# Altium footprint library IC_SMD_BGA.PCBLIB: 109 footprints (part 1 of 14)
Each footprint in its own frame and in the unit in brackets; x right, y up, seen from the top. Pads: shape width x height; smd on the part's side, far side on the other; paste and mask are expansions set on the pad; w line width, h text height; cw(c..) or ccw(c..) is an arc to the next point about the centre after c.
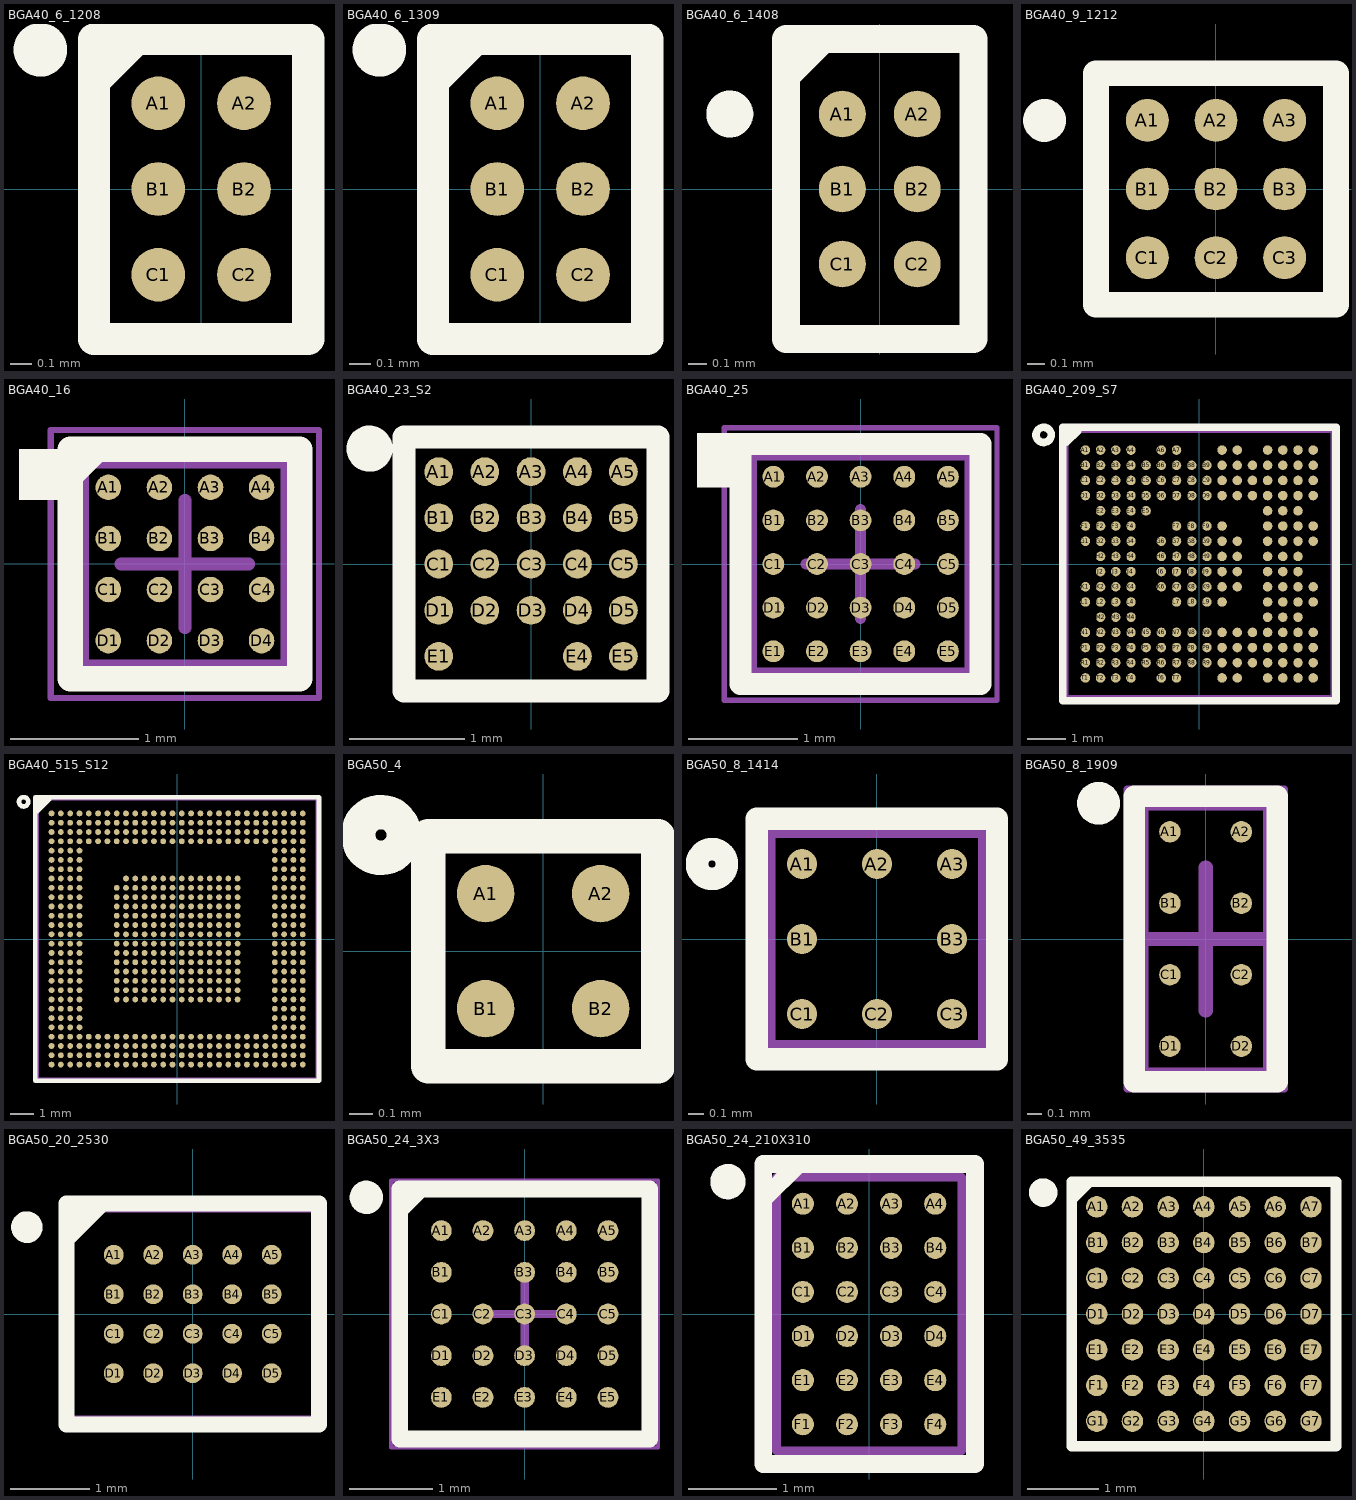
[diagram p0: the footprints below, top view; thin cyan lines are the x and y axes]

## BGA40_6_1208 [mm] "BGA WLCSP-6, 0.40mm pitch, 1.2x0.8x0.55mm"
height 0.62
pads (6):
  round 0.25 smd mask+0.05: A1(-0.2,0.4) A2(0.2,0.4) B1(-0.2,0) B2(0.2,0) C1(-0.2,-0.4) C2(0.2,-0.4)
TopOverlay:
  circle w0.15: c-0.75,0.65 r0.05
  region: -0.5,0.7 -0.2,0.7 -0.5,0.4
  lines w0.15: -0.5,-0.7 -0.5,0.7 0.5,0.7 0.5,-0.7 -0.5,-0.7
3D body "BMA530.STEP": height 0.59, standoff 0, extent -0.4,-0.6 0.4,0.6

## BGA40_6_1309 [mm] "BGA DSBGA, 6-Leads, YFF, Body 0.88x1.28mmx0.62mm, Pitch 0.40mm"
height 0.62
pads (6):
  round 0.25 smd mask+0.05: A1(-0.2,0.4) A2(0.2,0.4) B1(-0.2,0) B2(0.2,0) C1(-0.2,-0.4) C2(0.2,-0.4)
TopOverlay:
  circle w0.15: c-0.75,0.65 r0.05
  region: -0.5,0.7 -0.2,0.7 -0.5,0.4
  lines w0.15: -0.5,-0.7 -0.5,0.7 0.5,0.7 0.5,-0.7 -0.5,-0.7
3D body "BGA40_6_1309-.step": height 0.63, standoff 0, extent -0.43,-0.63 0.43,0.63
3D body "BMA530.STEP": height 0.59, standoff 0, extent -1.7,-0.6 -0.9,0.6

## BGA40_6_1408 [mm] "BGA WLCSP6, 6-Leads, Body 0.80x1.40mmx0.37mm, Pitch 0.40mm"
height 0.37
pads (6):
  round 0.25 smd mask+0.05: A1(-0.2,0.4) A2(0.2,0.4) B1(-0.2,0) B2(0.2,0) C1(-0.2,-0.4) C2(0.2,-0.4)
TopOverlay:
  circle w0.15: c-0.8,0.4 r0.05
  region: -0.5,0.8 -0.2,0.8 -0.5,0.5
  lines w0.15: -0.5,-0.8 -0.5,0.8 0.5,0.8 0.5,-0.8 -0.5,-0.8
3D body "BGA40_6_1408.step": height 0.37, standoff 0, extent -0.4,-0.7 0.4,0.7

## BGA40_9_1212 [mm] "WLCSP9, 9-Leads, Body 1.26x1.215x0.50mm, Pitch 0.40mm"
height 0.5
pads (9):
  round 0.25 smd mask+0.05: A1(-0.4,0.4) A2(0,0.4) A3(0.4,0.4) B1(-0.4,0) B2(0,0) B3(0.4,0) C1(-0.4,-0.4) C2(0,-0.4) C3(0.4,-0.4)
TopOverlay:
  circle w0.15: c-1,0.4 r0.05
  lines w0.15: -0.7,-0.675 -0.7,0.675 0.7,0.675 0.7,-0.675 -0.7,-0.675
3D body "BGA40_1212.step": height 0.5, standoff 0, extent -0.625,-0.6 0.625,0.6

## BGA40_16 [mm] "BGA, CB-16-10, 0.4mm pitch, 1.6x1.6x0.55mm"
height 0.55
pads (16):
  round 0.2 smd mask+0.05: A1(-0.6,0.6) A2(-0.2,0.6) A3(0.2,0.6) A4(0.6,0.6) B1(-0.6,0.2) B2(-0.2,0.2) B3(0.2,0.2) B4(0.6,0.2) C1(-0.6,-0.2) C2(-0.2,-0.2) C3(0.2,-0.2) C4(0.6,-0.2) D1(-0.6,-0.6) D2(-0.2,-0.6) D3(0.2,-0.6) D4(0.6,-0.6)
TopOverlay:
  rectangle: -1.3,0.5 -0.9,0.9
  region: -0.9,0.9 -0.55,0.9 -0.9,0.55
  lines w0.2: -0.9,-0.9 -0.9,0.9 0.9,0.9 0.9,-0.9 -0.9,-0.9
Mechanical13:
  lines w0.1: -0.8,-0.8 0.8,-0.8 0.8,0.8 -0.8,0.8 -0.8,-0.8
Mechanical15:
  lines w0.05: -1.05,-1.05 1.05,-1.05 1.05,1.05 -1.05,1.05 -1.05,-1.05
  lines w0.1: -0.5,0 0.5,0 ; 0,-0.5 0,0.5
3D body "BGA40_16.step": height 0.55, standoff 0, extent -0.8,-0.8 0.8,0.8

## BGA40_23_S2 [mm] "BGA, 23-balls (5x5), 2x2mm, Pitch 0.4mm"
height 0.5
pads (23):
  round 0.25 smd mask+0.05: A1(-0.8,0.8) A2(-0.401,0.8) A3(0,0.8) A4(0.401,0.8) A5(0.8,0.8) B1(-0.8,0.401) B2(-0.401,0.401) B3(0,0.401) B4(0.401,0.401) B5(0.8,0.401) C1(-0.8,0) C2(-0.401,0) C3(0,0) C4(0.401,0) C5(0.8,0) D1(-0.8,-0.401) D2(-0.401,-0.401) D3(0,-0.401) D4(0.401,-0.401) D5(0.8,-0.401) E1(-0.8,-0.8) E4(0.401,-0.8) E5(0.8,-0.8)
TopOverlay:
  circle w0.2: c-1.4,1 r0.1
  lines w0.2: -1.1,-1.1 -1.1,1.1 1.1,1.1 1.1,-1.1 -1.1,-1.1
3D body: height 0.6, standoff 0.1, extent -1,-1 1,1

## BGA40_25 [mm] "BGA, DSBGA, YFQ0025, 0.4mm pitch, 2x2x0.6mm"
height 0.6
pads (25):
  round 0.2 smd mask+0.05: A1(-0.8,0.8) A2(-0.4,0.8) A3(0,0.8) A4(0.4,0.8) A5(0.8,0.8) B1(-0.8,0.4) B2(-0.4,0.4) B3(0,0.4) B4(0.4,0.4) B5(0.8,0.4) C1(-0.8,0) C2(-0.4,0) C3(0,0) C4(0.4,0) C5(0.8,0) D1(-0.8,-0.4) D2(-0.4,-0.4) D3(0,-0.4) D4(0.4,-0.4) D5(0.8,-0.4) E1(-0.8,-0.8) E2(-0.4,-0.8) E3(0,-0.8) E4(0.4,-0.8) E5(0.8,-0.8)
TopOverlay:
  rectangle: -1.5,0.7 -1.1,1.2
  lines w0.2: -1.1,-1.1 -1.1,1.1 1.1,1.1 1.1,-1.1 -1.1,-1.1
Mechanical13:
  lines w0.1: -1,-1 1,-1 1,1 -1,1 -1,-1
Mechanical15:
  lines w0.05: -1.25,-1.25 1.25,-1.25 1.25,1.25 -1.25,1.25 -1.25,-1.25
  lines w0.1: -0.5,0 0.5,0 ; 0,-0.5 0,0.5
3D body "BGA40_25.step": height 0.6, standoff 0, extent -1,-1 1,1

## BGA40_209_S7 [mm] "ZXN BGA, 209-balls (16x16), 7x7mm, Pitch 0.4mm"
height 1
pads (209):
  round 0.25 smd mask+0.05: A1(-3,3) A2(-2.6,3) A3(-2.2,3) A4(-1.8,3) A6(-1,3) A7(-0.6,3) A10(0.6,3) A11(1,3) A13(1.8,3) A14(2.2,3) A15(2.6,3) A16(3,3) B1(-3,2.6) B2(-2.6,2.6) B3(-2.2,2.6) B4(-1.8,2.6) B5(-1.4,2.6) B6(-1,2.6) B7(-0.6,2.6) B8(-0.2,2.6) B9(0.2,2.6) B10(0.6,2.6) B11(1,2.6) B12(1.4,2.6) B13(1.8,2.6) B14(2.2,2.6) B15(2.6,2.6) B16(3,2.6) C1(-3,2.2) C2(-2.6,2.2) C3(-2.2,2.2) C4(-1.8,2.2) C5(-1.4,2.2) C6(-1,2.2) C7(-0.6,2.2) C8(-0.2,2.2) C9(0.2,2.2) C10(0.6,2.2) C11(1,2.2) C12(1.4,2.2) C13(1.8,2.2) C14(2.2,2.2) C15(2.6,2.2) C16(3,2.2) D1(-3,1.8) D2(-2.6,1.8) D3(-2.2,1.8) D4(-1.8,1.8) D5(-1.4,1.8) D6(-1,1.8) D7(-0.6,1.8) D8(-0.2,1.8) D9(0.2,1.8) D10(0.6,1.8) D11(1,1.8) D12(1.4,1.8) D13(1.8,1.8) D14(2.2,1.8) D15(2.6,1.8) D16(3,1.8) E2(-2.6,1.4) E3(-2.2,1.4) E4(-1.8,1.4) E5(-1.4,1.4) E13(1.8,1.4) E14(2.2,1.4) E15(2.6,1.4) F1(-3,1) F2(-2.6,1) F3(-2.2,1) F4(-1.8,1) F7(-0.6,1) F8(-0.2,1) F9(0.2,1) F10(0.6,1) F13(1.8,1) F14(2.2,1) F15(2.6,1) F16(3,1) G1(-3,0.6) G2(-2.6,0.6) G3(-2.2,0.6) G4(-1.8,0.6) G6(-1,0.6) G7(-0.6,0.6) G8(-0.2,0.6) G9(0.2,0.6) G10(0.6,0.6) G11(1,0.6) G13(1.8,0.6) G14(2.2,0.6) G15(2.6,0.6) G16(3,0.6) H2(-2.6,0.2) H3(-2.2,0.2) H4(-1.8,0.2) H6(-1,0.2) H7(-0.6,0.2) H8(-0.2,0.2) H9(0.2,0.2) H10(0.6,0.2) H11(1,0.2) H13(1.8,0.2) H14(2.2,0.2) H15(2.6,0.2) J2(-2.6,-0.2) J3(-2.2,-0.2) J4(-1.8,-0.2) J6(-1,-0.2) J7(-0.6,-0.2) J8(-0.2,-0.2) J9(0.2,-0.2) J10(0.6,-0.2) J11(1,-0.2) J13(1.8,-0.2) J14(2.2,-0.2) J15(2.6,-0.2) K1(-3,-0.6) K2(-2.6,-0.6) K3(-2.2,-0.6) K4(-1.8,-0.6) K6(-1,-0.6) K7(-0.6,-0.6) K8(-0.2,-0.6) K9(0.2,-0.6) K10(0.6,-0.6) K11(1,-0.6) K13(1.8,-0.6) K14(2.2,-0.6) K15(2.6,-0.6) K16(3,-0.6) L1(-3,-1) L2(-2.6,-1) L3(-2.2,-1) L4(-1.8,-1) L7(-0.6,-1) L8(-0.2,-1) L9(0.2,-1) L10(0.6,-1) L13(1.8,-1) L14(2.2,-1) L15(2.6,-1) L16(3,-1) M2(-2.6,-1.4) M3(-2.2,-1.4) M4(-1.8,-1.4) M13(1.8,-1.4) M14(2.2,-1.4) M15(2.6,-1.4) N1(-3,-1.8) N2(-2.6,-1.8) N3(-2.2,-1.8) N4(-1.8,-1.8) N5(-1.4,-1.8) N6(-1,-1.8) N7(-0.6,-1.8) N8(-0.2,-1.8) N9(0.2,-1.8) N10(0.6,-1.8) N11(1,-1.8) N12(1.4,-1.8) N13(1.8,-1.8) N14(2.2,-1.8) N15(2.6,-1.8) N16(3,-1.8) P1(-3,-2.2) P2(-2.6,-2.2) P3(-2.2,-2.2) P4(-1.8,-2.2) P5(-1.4,-2.2) P6(-1,-2.2) P7(-0.6,-2.2) P8(-0.2,-2.2) P9(0.2,-2.2) P10(0.6,-2.2) P11(1,-2.2) P12(1.4,-2.2) P13(1.8,-2.2) P14(2.2,-2.2) P15(2.6,-2.2) P16(3,-2.2) R1(-3,-2.6) R2(-2.6,-2.6) R3(-2.2,-2.6) R4(-1.8,-2.6) R5(-1.4,-2.6) R6(-1,-2.6) R7(-0.6,-2.6) R8(-0.2,-2.6) R9(0.2,-2.6) R10(0.6,-2.6) R11(1,-2.6) R12(1.4,-2.6) R13(1.8,-2.6) R14(2.2,-2.6) R15(2.6,-2.6) R16(3,-2.6) T1(-3,-3) T2(-2.6,-3) T3(-2.2,-3) T4(-1.8,-3) T6(-1,-3) T7(-0.6,-3) T10(0.6,-3) T11(1,-3) T13(1.8,-3) T14(2.2,-3) T15(2.6,-3) T16(3,-3)
TopOverlay:
  circle w0.2: c-4.1,3.4 r0.2
  region: -3.207,3.5 -3.5,3.207 -3.5,3.5
  lines w0.2: -3.5,3.207 -3.207,3.5 ; -3.6,-3.6 3.6,-3.6 3.6,3.6 -3.6,3.6 -3.6,-3.6
Mechanical13:
  lines w0.1: -3.5,-3.5 3.5,-3.5 3.5,3.5 -3.5,3.5 -3.5,-3.5
3D body: height 1, standoff 0.15, extent -3.5,-3.5 3.5,3.5

## BGA40_515_S12 [mm] "BGA, 515-Leads, Body 12.00x12.00mm, Pitch 0.40mm"
height 0.7
pads (579):
  round 0.25 smd mask+0.075: A1(-5.4,5.4) A2(-5,5.4) A3(-4.6,5.4) A4(-4.2,5.4) A5(-3.8,5.4) A6(-3.4,5.4) A7(-3,5.4) A8(-2.6,5.4) A9(-2.2,5.4) A10(-1.8,5.4) A11(-1.4,5.4) A12(-1,5.4) A13(-0.6,5.4) A14(-0.2,5.4) A15(0.2,5.4) A16(0.6,5.4) A17(1,5.4) A18(1.4,5.4) A19(1.8,5.4) A20(2.2,5.4) A21(2.6,5.4) A22(3,5.4) A23(3.4,5.4) A24(3.8,5.4) A25(4.2,5.4) A26(4.6,5.4) A27(5,5.4) A28(5.4,5.4) AA1(-5.4,-2.6) AA2(-5,-2.6) AA3(-4.6,-2.6) AA4(-4.2,-2.6) AA8(-2.6,-2.6) AA9(-2.2,-2.6) AA10(-1.8,-2.6) AA11(-1.4,-2.6) AA12(-1,-2.6) AA13(-0.6,-2.6) AA14(-0.2,-2.6) AA15(0.2,-2.6) AA16(0.6,-2.6) AA17(1,-2.6) AA18(1.4,-2.6) AA19(1.8,-2.6) AA20(2.2,-2.6) AA21(2.6,-2.6) AA25(4.2,-2.6) AA26(4.6,-2.6) AA27(5,-2.6) AA28(5.4,-2.6) AB1(-5.4,-3) AB2(-5,-3) AB3(-4.6,-3) AB4(-4.2,-3) AB25(4.2,-3) AB26(4.6,-3) AB27(5,-3) AB28(5.4,-3) AC1(-5.4,-3.4) AC2(-5,-3.4) AC3(-4.6,-3.4) AC4(-4.2,-3.4) AC25(4.2,-3.4) AC26(4.6,-3.4) AC27(5,-3.4) AC28(5.4,-3.4) AD1(-5.4,-3.8) AD2(-5,-3.8) AD3(-4.6,-3.8) AD4(-4.2,-3.8) AD25(4.2,-3.8) AD26(4.6,-3.8) AD27(5,-3.8) AD28(5.4,-3.8) AE1(-5.4,-4.2) AE2(-5,-4.2) AE3(-4.6,-4.2) AE4(-4.2,-4.2) AE5(-3.8,-4.2) AE6(-3.4,-4.2) AE7(-3,-4.2) AE8(-2.6,-4.2) AE9(-2.2,-4.2) AE10(-1.8,-4.2) AE11(-1.4,-4.2) AE12(-1,-4.2) AE13(-0.6,-4.2) AE14(-0.2,-4.2) AE15(0.2,-4.2) AE16(0.6,-4.2) AE17(1,-4.2) AE18(1.4,-4.2) AE19(1.8,-4.2) AE20(2.2,-4.2) AE21(2.6,-4.2) AE22(3,-4.2) AE23(3.4,-4.2) AE24(3.8,-4.2) AE25(4.2,-4.2) AE26(4.6,-4.2) AE27(5,-4.2) AE28(5.4,-4.2) AF1(-5.4,-4.6) AF2(-5,-4.6) AF3(-4.6,-4.6) AF4(-4.2,-4.6) AF5(-3.8,-4.6) AF6(-3.4,-4.6) AF7(-3,-4.6) AF8(-2.6,-4.6) AF9(-2.2,-4.6) AF10(-1.8,-4.6) AF11(-1.4,-4.6) AF12(-1,-4.6) AF13(-0.6,-4.6) AF14(-0.2,-4.6) AF15(0.2,-4.6) AF16(0.6,-4.6) AF17(1,-4.6) AF18(1.4,-4.6) AF19(1.8,-4.6) AF20(2.2,-4.6) AF21(2.6,-4.6) AF22(3,-4.6) AF23(3.4,-4.6) AF24(3.8,-4.6) AF25(4.2,-4.6) AF26(4.6,-4.6) AF27(5,-4.6) AF28(5.4,-4.6) AG1(-5.4,-5) AG2(-5,-5) AG3(-4.6,-5) AG4(-4.2,-5) AG5(-3.8,-5) AG6(-3.4,-5) AG7(-3,-5) AG8(-2.6,-5) AG9(-2.2,-5) AG10(-1.8,-5) AG11(-1.4,-5) AG12(-1,-5) AG13(-0.6,-5) AG14(-0.2,-5) AG15(0.2,-5) AG16(0.6,-5) AG17(1,-5) AG18(1.4,-5) AG19(1.8,-5) AG20(2.2,-5) AG21(2.6,-5) AG22(3,-5) AG23(3.4,-5) AG24(3.8,-5) AG25(4.2,-5) AG26(4.6,-5) AG27(5,-5) AG28(5.4,-5) AH1(-5.4,-5.4) AH2(-5,-5.4) AH3(-4.6,-5.4) AH4(-4.2,-5.4) AH5(-3.8,-5.4) AH6(-3.4,-5.4) AH7(-3,-5.4) AH8(-2.6,-5.4) AH9(-2.2,-5.4) AH10(-1.8,-5.4) AH11(-1.4,-5.4) AH12(-1,-5.4) AH13(-0.6,-5.4) AH14(-0.2,-5.4) AH15(0.2,-5.4) AH16(0.6,-5.4) AH17(1,-5.4) AH18(1.4,-5.4) AH19(1.8,-5.4) AH20(2.2,-5.4) AH21(2.6,-5.4) AH22(3,-5.4) AH23(3.4,-5.4) AH24(3.8,-5.4) AH25(4.2,-5.4) AH26(4.6,-5.4) AH27(5,-5.4) AH28(5.4,-5.4) B1(-5.4,5) B2(-5,5) B3(-4.6,5) B4(-4.2,5) B5(-3.8,5) B6(-3.4,5) B7(-3,5) B8(-2.6,5) B9(-2.2,5) B10(-1.8,5) B11(-1.4,5) B12(-1,5) B13(-0.6,5) B14(-0.2,5) B15(0.2,5) B16(0.6,5) B17(1,5) B18(1.4,5) B19(1.8,5) B20(2.2,5) B21(2.6,5) B22(3,5) B23(3.4,5) B24(3.8,5) B25(4.2,5) B26(4.6,5) B27(5,5) B28(5.4,5) C1(-5.4,4.6) C2(-5,4.6) C3(-4.6,4.6) C4(-4.2,4.6) C5(-3.8,4.6) C6(-3.4,4.6) C7(-3,4.6) C8(-2.6,4.6) C9(-2.2,4.6) C10(-1.8,4.6) C11(-1.4,4.6) C12(-1,4.6) C13(-0.6,4.6) C14(-0.2,4.6) C15(0.2,4.6) C16(0.6,4.6) C17(1,4.6) C18(1.4,4.6) C19(1.8,4.6) C20(2.2,4.6) C21(2.6,4.6) C22(3,4.6) C23(3.4,4.6) C24(3.8,4.6) C25(4.2,4.6) C26(4.6,4.6) C27(5,4.6) C28(5.4,4.6) D1(-5.4,4.2) D2(-5,4.2) D3(-4.6,4.2) D4(-4.2,4.2) D5(-3.8,4.2) D6(-3.4,4.2) D7(-3,4.2) D8(-2.6,4.2) D9(-2.2,4.2) D10(-1.8,4.2) D11(-1.4,4.2) D12(-1,4.2) D13(-0.6,4.2) D14(-0.2,4.2) D15(0.2,4.2) D16(0.6,4.2) D17(1,4.2) D18(1.4,4.2) D19(1.8,4.2) D20(2.2,4.2) D21(2.6,4.2) D22(3,4.2) D23(3.4,4.2) D24(3.8,4.2) D25(4.2,4.2) D26(4.6,4.2) D27(5,4.2) D28(5.4,4.2) E1(-5.4,3.8) E2(-5,3.8) E3(-4.6,3.8) E4(-4.2,3.8) E25(4.2,3.8) E26(4.6,3.8) E27(5,3.8) E28(5.4,3.8) F1(-5.4,3.4) F2(-5,3.4) F3(-4.6,3.4) F4(-4.2,3.4) F25(4.2,3.4) F26(4.6,3.4) F27(5,3.4) F28(5.4,3.4) G1(-5.4,3) G2(-5,3) G3(-4.6,3) G4(-4.2,3) G25(4.2,3) G26(4.6,3) G27(5,3) G28(5.4,3) H1(-5.4,2.6) H2(-5,2.6) H3(-4.6,2.6) H4(-4.2,2.6) H9(-2.2,2.6) H10(-1.8,2.6) H11(-1.4,2.6) H12(-1,2.6) H13(-0.6,2.6) H14(-0.2,2.6) H15(0.2,2.6) H16(0.6,2.6) H17(1,2.6) H18(1.4,2.6) H19(1.8,2.6) H20(2.2,2.6) H21(2.6,2.6) H25(4.2,2.6) H26(4.6,2.6) H27(5,2.6) H28(5.4,2.6) J1(-5.4,2.2) J2(-5,2.2) J3(-4.6,2.2) J4(-4.2,2.2) J8(-2.6,2.2) J9(-2.2,2.2) J10(-1.8,2.2) J11(-1.4,2.2) J12(-1,2.2) J13(-0.6,2.2) J14(-0.2,2.2) J15(0.2,2.2) J16(0.6,2.2) J17(1,2.2) J18(1.4,2.2) J19(1.8,2.2) J20(2.2,2.2) J21(2.6,2.2) J25(4.2,2.2) J26(4.6,2.2) J27(5,2.2) J28(5.4,2.2) K1(-5.4,1.8) K2(-5,1.8) K3(-4.6,1.8) K4(-4.2,1.8) K8(-2.6,1.8) K9(-2.2,1.8) K10(-1.8,1.8) K11(-1.4,1.8) K12(-1,1.8) K13(-0.6,1.8) K14(-0.2,1.8) K15(0.2,1.8) K16(0.6,1.8) K17(1,1.8) K18(1.4,1.8) K19(1.8,1.8) K20(2.2,1.8) K21(2.6,1.8) K25(4.2,1.8) K26(4.6,1.8) K27(5,1.8) K28(5.4,1.8) L1(-5.4,1.4) L2(-5,1.4) L3(-4.6,1.4) L4(-4.2,1.4) L8(-2.6,1.4) L9(-2.2,1.4) L10(-1.8,1.4) L11(-1.4,1.4) L12(-1,1.4) L13(-0.6,1.4) L14(-0.2,1.4) L15(0.2,1.4) L16(0.6,1.4) L17(1,1.4) L18(1.4,1.4) L19(1.8,1.4) L20(2.2,1.4) L21(2.6,1.4) L25(4.2,1.4) L26(4.6,1.4) L27(5,1.4) L28(5.4,1.4) M1(-5.4,1) M2(-5,1) M3(-4.6,1) M4(-4.2,1) M8(-2.6,1) M9(-2.2,1) M10(-1.8,1) M11(-1.4,1) M12(-1,1) M13(-0.6,1) M14(-0.2,1) M15(0.2,1) M16(0.6,1) M17(1,1) M18(1.4,1) M19(1.8,1) M20(2.2,1) M21(2.6,1) M25(4.2,1) M26(4.6,1) M27(5,1) M28(5.4,1) N1(-5.4,0.6) N2(-5,0.6) N3(-4.6,0.6) N4(-4.2,0.6) N8(-2.6,0.6) N9(-2.2,0.6) N10(-1.8,0.6) N11(-1.4,0.6) N12(-1,0.6) N13(-0.6,0.6) N14(-0.2,0.6) N15(0.2,0.6) N16(0.6,0.6) N17(1,0.6) N18(1.4,0.6) N19(1.8,0.6) N20(2.2,0.6) N21(2.6,0.6) N25(4.2,0.6) N26(4.6,0.6) N27(5,0.6) N28(5.4,0.6) P1(-5.4,0.2) P2(-5,0.2) P3(-4.6,0.2) P4(-4.2,0.2) P8(-2.6,0.2) P9(-2.2,0.2) P10(-1.8,0.2) P11(-1.4,0.2) P12(-1,0.2) P13(-0.6,0.2) P14(-0.2,0.2) P15(0.2,0.2) P16(0.6,0.2) P17(1,0.2) P18(1.4,0.2) P19(1.8,0.2) P20(2.2,0.2) P21(2.6,0.2) P25(4.2,0.2) P26(4.6,0.2) P27(5,0.2) P28(5.4,0.2) R1(-5.4,-0.2) R2(-5,-0.2) R3(-4.6,-0.2) R4(-4.2,-0.2) R8(-2.6,-0.2) R9(-2.2,-0.2) R10(-1.8,-0.2) R11(-1.4,-0.2) R12(-1,-0.2) R13(-0.6,-0.2) R14(-0.2,-0.2) R15(0.2,-0.2) R16(0.6,-0.2) R17(1,-0.2) R18(1.4,-0.2) R19(1.8,-0.2) R20(2.2,-0.2) R21(2.6,-0.2) R25(4.2,-0.2) R26(4.6,-0.2) R27(5,-0.2) R28(5.4,-0.2) T1(-5.4,-0.6) T2(-5,-0.6) T3(-4.6,-0.6) T4(-4.2,-0.6) T8(-2.6,-0.6) T9(-2.2,-0.6) T10(-1.8,-0.6) T11(-1.4,-0.6) T12(-1,-0.6) T13(-0.6,-0.6) T14(-0.2,-0.6) T15(0.2,-0.6) T16(0.6,-0.6) T17(1,-0.6) T18(1.4,-0.6) T19(1.8,-0.6) T20(2.2,-0.6) T21(2.6,-0.6) T25(4.2,-0.6) T26(4.6,-0.6) T27(5,-0.6) T28(5.4,-0.6) U1(-5.4,-1) U2(-5,-1) U3(-4.6,-1) U4(-4.2,-1) U8(-2.6,-1) U9(-2.2,-1) U10(-1.8,-1) U11(-1.4,-1) U12(-1,-1) U13(-0.6,-1) U14(-0.2,-1) U15(0.2,-1) U16(0.6,-1) U17(1,-1) U18(1.4,-1) U19(1.8,-1) U20(2.2,-1) U21(2.6,-1) U25(4.2,-1) U26(4.6,-1) U27(5,-1) U28(5.4,-1) V1(-5.4,-1.4) V2(-5,-1.4) V3(-4.6,-1.4) V4(-4.2,-1.4) V8(-2.6,-1.4) V9(-2.2,-1.4) V10(-1.8,-1.4) V11(-1.4,-1.4) V12(-1,-1.4) V13(-0.6,-1.4) V14(-0.2,-1.4) V15(0.2,-1.4) V16(0.6,-1.4) V17(1,-1.4) V18(1.4,-1.4) V19(1.8,-1.4) V20(2.2,-1.4) V21(2.6,-1.4) V25(4.2,-1.4) V26(4.6,-1.4) V27(5,-1.4) V28(5.4,-1.4) W1(-5.4,-1.8) W2(-5,-1.8) W3(-4.6,-1.8) W4(-4.2,-1.8) W8(-2.6,-1.8) W9(-2.2,-1.8) W10(-1.8,-1.8) W11(-1.4,-1.8) W12(-1,-1.8) W13(-0.6,-1.8) W14(-0.2,-1.8) W15(0.2,-1.8) W16(0.6,-1.8) W17(1,-1.8) W18(1.4,-1.8) W19(1.8,-1.8) W20(2.2,-1.8) W21(2.6,-1.8) W25(4.2,-1.8) W26(4.6,-1.8) W27(5,-1.8) W28(5.4,-1.8) Y1(-5.4,-2.2) Y2(-5,-2.2) Y3(-4.6,-2.2) Y4(-4.2,-2.2) Y8(-2.6,-2.2) Y9(-2.2,-2.2) Y10(-1.8,-2.2) Y11(-1.4,-2.2) Y12(-1,-2.2) Y13(-0.6,-2.2) Y14(-0.2,-2.2) Y15(0.2,-2.2) Y16(0.6,-2.2) Y17(1,-2.2) Y18(1.4,-2.2) Y19(1.8,-2.2) Y20(2.2,-2.2) Y21(2.6,-2.2) Y25(4.2,-2.2) Y26(4.6,-2.2) Y27(5,-2.2) Y28(5.4,-2.2)
TopOverlay:
  circle w0.2: c-6.6,5.9 r0.2
  region: -5.507,6 -6,5.507 -6,6
  lines w0.2: -6,5.507 -5.507,6 ; -6.1,-6.1 6.1,-6.1 6.1,6.1 -6.1,6.1 -6.1,-6.1
Mechanical13:
  lines w0.1: -6,-6 6,-6 6,6 -6,6 -6,-6
3D body: height 0.7, standoff 0.15, extent -6,-6 6,6

## BGA50_4 [mm] "BGA, pitch; 0.5mm, 4-Ball, 0.9x0.9mm"
height 1
pads (4):
  round 0.25 smd mask+0.05: A1(-0.25,0.25) A2(0.25,0.25) B1(-0.25,-0.25) B2(0.25,-0.25)
TopOverlay:
  circle w0.15: c-0.705,0.505 r0.1
  lines w0.15: -0.5,-0.5 0.5,-0.5 0.5,0.5 -0.5,0.5 -0.5,-0.5
3D body "BGA50_41.step": height 0.5, standoff 0, extent -0.45,-0.45 0.45,0.45

## BGA50_8_1414 [mm] "DSBGA-8, YPB8, 0.5mm pitch, 1.45x1.45x0.6mm"
height 0.6
pads (8):
  round 0.2 smd mask+0.05: A1(-0.5,0.5) A2(0,0.5) A3(0.5,0.5) B1(-0.5,0) B3(0.5,0) C1(-0.5,-0.5) C2(0,-0.5) C3(0.5,-0.5)
TopOverlay:
  circle w0.15: c-1.1,0.5 r0.1
  lines w0.15: -0.8,-0.8 -0.8,0.8 0.8,0.8 0.8,-0.8 -0.8,-0.8
Mechanical13:
  lines w0.1: -0.725,-0.725 0.725,-0.725 0.725,0.725 -0.725,0.725 -0.725,-0.725
3D body "BGA50_8_1414.step": height 0.6, standoff 0, extent -0.725,-0.725 0.725,0.725

## BGA50_8_1909 [mm] "BGA, YZP8, 8-Leads, Body 1.9x0.9mm, Pitch 0.5mm"
height 0.5
pads (8):
  round 0.15 smd mask+0.05: A1(-0.25,0.75) A2(0.25,0.75) B1(-0.25,0.25) B2(0.25,0.25) C1(-0.25,-0.25) C2(0.25,-0.25) D1(-0.25,-0.75) D2(0.25,-0.75)
TopOverlay:
  circle w0.15: c-0.75,0.95 r0.075
  lines w0.15: -0.5,-1 0.5,-1 0.5,1 -0.5,1 -0.5,-1
Mechanical13:
  lines w0.1: -0.45,-0.95 -0.45,0.95 0.45,0.95 0.45,-0.95 -0.45,-0.95
Mechanical15:
  lines w0.05: -0.55,-1.05 -0.55,1.05 0.55,1.05 0.55,-1.05 -0.55,-1.05
  lines w0.1: -0.5,0 0.5,0 ; 0,-0.5 0,0.5
3D body: height 0.5, standoff 0.15, extent -0.45,-0.95 0.45,0.95

## BGA50_20_2530 [mm] "NFBGA-20, 0.5mm pitch, 2.5x3x1mm, NME"
height 1
pads (20):
  round 0.25 smd paste+0 mask+0.05: A1(-1,0.75) A2(-0.5,0.75) A3(0,0.75) A4(0.5,0.75) A5(1,0.75) B1(-1,0.25) B2(-0.5,0.25) B3(0,0.25) B4(0.5,0.25) B5(1,0.25) C1(-1,-0.25) C2(-0.5,-0.25) C3(0,-0.25) C4(0.5,-0.25) C5(1,-0.25) D1(-1,-0.75) D2(-0.5,-0.75) D3(0,-0.75) D4(0.5,-0.75) D5(1,-0.75)
TopOverlay:
  circle w0.2: c-2.1,1.1 r0.1
  region: -1.6,1.4 -1,1.4 -1.6,0.8
  lines w0.2: -1.6,-1.4 1.6,-1.4 1.6,1.4 -1.6,1.4 -1.6,-1.4
Mechanical13:
  lines w0.025: -1.549,1.045 -1.299,1.295 ; -1.549,-1.295 1.549,-1.295 1.549,1.295 -1.549,1.295 -1.549,-1.295
3D body "NFBGA20_NME_TEX.step": height 0.81, standoff 0, extent -1.549,-1.295 1.549,1.295

## BGA50_24_3X3 [mm] "BGA, 24-Leads, ZQS24, Body 3x3mm, Pitch 0.5mm"
height 1
pads (24):
  round 0.25 smd mask+0.05: A1(-1,1) A2(-0.5,1) A3(0,1) A4(0.5,1) A5(1,1) B1(-1,0.5) B3(0,0.5) B4(0.5,0.5) B5(1,0.5) C1(-1,0) C2(-0.5,0) C3(0,0) C4(0.5,0) C5(1,0) D1(-1,-0.5) D2(-0.5,-0.5) D3(0,-0.5) D4(0.5,-0.5) D5(1,-0.5) E1(-1,-1) E2(-0.5,-1) E3(0,-1) E4(0.5,-1) E5(1,-1)
TopOverlay:
  circle w0.2: c-1.9,1.4 r0.1
  region: -1.242,1.5 -1.5,1.242 -1.5,1.5
  lines w0.2: -1.5,1.242 -1.242,1.5 ; -1.5,-1.5 1.5,-1.5 1.5,1.5 -1.5,1.5 -1.5,-1.5
Mechanical13:
  lines w0.1: -1.5,-1.5 1.5,-1.5 1.5,1.5 -1.5,1.5 -1.5,-1.5
Mechanical15:
  lines w0.05: -1.6,-1.6 1.6,-1.6 1.6,1.6 -1.6,1.6 -1.6,-1.6
  lines w0.1: -0.5,0 0.5,0 ; 0,-0.5 0,0.5
3D body: height 1, standoff 0.15, extent -1.5,-1.5 1.5,1.5

## BGA50_24_210X310 [mm] "DSBGA 24-BALL 2.1X3.1mm pitch:0.5mm"
height 0.63
pads (24):
  round 0.25 smd mask+0.05: A1(-0.75,1.25) A2(-0.25,1.25) A3(0.25,1.25) A4(0.75,1.25) B1(-0.75,0.75) B2(-0.25,0.75) B3(0.25,0.75) B4(0.75,0.75) C1(-0.75,0.25) C2(-0.25,0.25) C3(0.25,0.25) C4(0.75,0.25) D1(-0.75,-0.25) D2(-0.25,-0.25) D3(0.25,-0.25) D4(0.75,-0.25) E1(-0.75,-0.75) E2(-0.25,-0.75) E3(0.25,-0.75) E4(0.75,-0.75) F1(-0.75,-1.25) F2(-0.25,-1.25) F3(0.25,-1.25) F4(0.75,-1.25)
TopOverlay:
  circle w0.2: c-1.6,1.5 r0.1
  lines w0.2: -1.2,1.3 -0.8,1.7 ; -1.2,-1.7 -1.2,1.7 1.2,1.7 1.2,-1.7 -1.2,-1.7
Mechanical13:
  lines w0.1: -1.05,-1.55 1.05,-1.55 1.05,1.55 -1.05,1.55 -1.05,-1.55
3D body: height 0.63, standoff 0.15, extent -1.05,-1.55 1.05,1.55

## BGA50_49_3535 [mm] "BGA CB-49-1, 3.5x3.5x0.6mm, 0.5mm pitch"
height 0.66
pads (49):
  round 0.3 smd mask+0.05: A1(-1.5,1.5) A2(-1,1.5) A3(-0.5,1.5) A4(0,1.5) A5(0.5,1.5) A6(1,1.5) A7(1.5,1.5) B1(-1.5,1) B2(-1,1) B3(-0.5,1) B4(0,1) B5(0.5,1) B6(1,1) B7(1.5,1) C1(-1.5,0.5) C2(-1,0.5) C3(-0.5,0.5) C4(0,0.5) C5(0.5,0.5) C6(1,0.5) C7(1.5,0.5) D1(-1.5,0) D2(-1,0) D3(-0.5,0) D4(0,0) D5(0.5,0) D6(1,0) D7(1.5,0) E1(-1.5,-0.5) E2(-1,-0.5) E3(-0.5,-0.5) E4(0,-0.5) E5(0.5,-0.5) E6(1,-0.5) E7(1.5,-0.5) F1(-1.5,-1) F2(-1,-1) F3(-0.5,-1) F4(0,-1) F5(0.5,-1) F6(1,-1) F7(1.5,-1) G1(-1.5,-1.5) G2(-1,-1.5) G3(-0.5,-1.5) G4(0,-1.5) G5(0.5,-1.5) G6(1,-1.5) G7(1.5,-1.5)
TopOverlay:
  circle w0.2: c-2.25,1.7 r0.1
  region: -1.85,1.85 -1.5,1.85 -1.85,1.5
  lines w0.15: -1.85,-1.85 1.85,-1.85 1.85,1.85 -1.85,1.85 -1.85,-1.85
3D body "CB_49_1_ADI.step": height 0.66, standoff 0, extent -1.753,-1.753 1.753,1.753